# Altium schematic symbol library CC254x.SCHLIB: 30 symbols
Pins are listed as number, name and electrical type; pins without a type are passive.

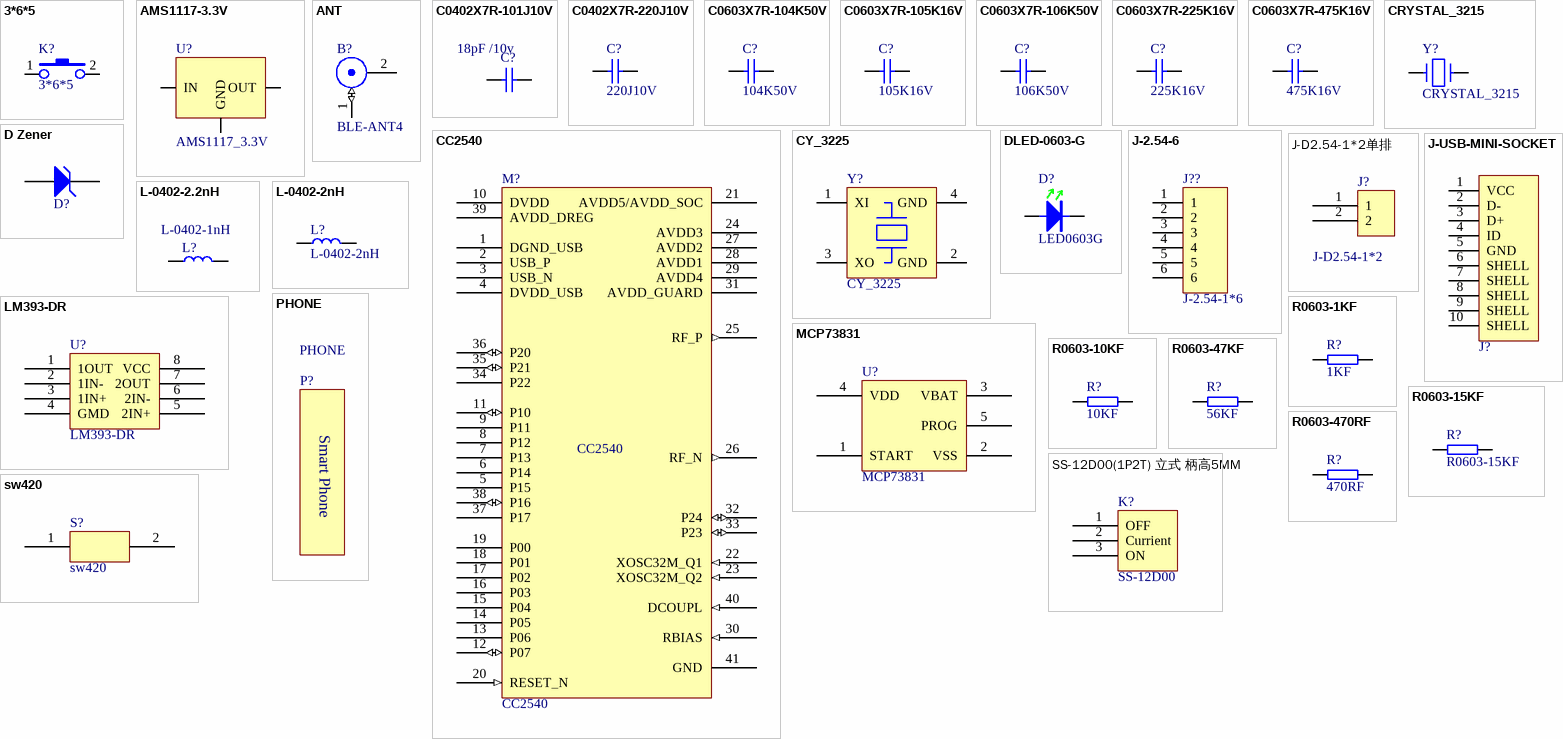
[diagram p0: symbols 3*6*5 to sw420]

## 3*6*5
designator K?
贴片-卧式轻触开关
footprint S-K3*6 (Footprint not found)
pins: 1, 2

## AMS1117-3.3V
designator U?, comment AMS1117_3.3V
footprint SOT-223
pins: 1 GND, 2 OUT, 3 IN

## ANT
designator B?, comment BLE-ANT4
footprint BLE-ANTS2
pins: 1 (io), 2 (power)

## C0402X7R-101J10V
designator C?, comment 18pF /10v
贴片电容-陶瓷; 规格型号: 100pF±5%_10V_X7R_C0402; 生产商: 风华 三星; 供应商: *; 备注: *
footprint C0402
pins: 1, 2

## C0402X7R-220J10V
designator C?, comment 220J10V
贴片电容-陶瓷; 规格型号: 22pF±5%_10V_X7R_C0402; 生产商: 风华 三星; 供应商: *; 备注: *
footprint C0402
pins: 1, 2

## C0603X7R-104K50V
designator C?, comment 104K50V
贴片电容-陶瓷; 规格型号: 100nF±10%_50V_X7R_C0603; 生产商: 风华 三星; 供应商: *; 备注: *
footprint C0603
pins: 1, 2

## C0603X7R-105K16V
designator C?, comment 105K16V
贴片电容-陶瓷; 规格型号: 1uF±10%_16V_X7R_C0603; 生产商: 风华 三星; 供应商: *; 备注: *
footprint C0603
pins: 1, 2

## C0603X7R-106K50V
designator C?, comment 106K50V
贴片电容-陶瓷; 规格型号: 10uF±10%_50V_X7R_C0603; 生产商: 风华 三星; 供应商: *; 备注: *
footprint C0603
pins: 1, 2

## C0603X7R-225K16V
designator C?, comment 225K16V
贴片电容-陶瓷; 规格型号: 2.2uF±10%_16V_X7R_C0603; 生产商: 风华 三星; 供应商: *; 备注: *
footprint C0603
pins: 1, 2

## C0603X7R-475K16V
designator C?, comment 475K16V
贴片电容-陶瓷; 规格型号: 4.7uF±10%_16V_X7R_C0603; 生产商: 风华 三星; 供应商: *; 备注: *
footprint C0603
pins: 1, 2

## CC2540
designator M?
footprint CC254X_QFN
pins: 1 DGND_USB (power), 2 USB_P (power), 3 USB_N (power), 4 DVDD_USB (power), 5 P15, 6 P14, 7 P13, 8 P12, 9 P11, 10 DVDD (power), 11 P10 (io), 12 P07 (io), 13 P06, 14 P05, 15 P04, 16 P03, 17 P02, 18 P01, 19 P00, 20 RESET_N (in), 21 AVDD5/AVDD_SOC (power), 22 XOSC32M_Q1 (in), 23 XOSC32M_Q2 (in), 24 AVDD3 (power), 25 RF_P (out), 26 RF_N (out), 27 AVDD2 (power), 28 AVDD1 (power), 29 AVDD4 (power), 30 RBIAS (in), 31 AVDD_GUARD (power), 32 P24 (io), 33 P23 (io), 34 P22, 35 P21 (io), 36 P20 (io), 37 P17, 38 P16 (io), 39 AVDD_DREG (power), 40 DCOUPL (in), 41 GND (power)

## CRYSTAL_3215
designator Y?
CRYSTAL_3215，两脚
footprint CRYSTAL_3215
pins: 1, 2

## CY_3225
designator Y?
footprint CY_3225
pins: 1 XI, 2 GND, 3 XO, 4 GND

## D Zener
designator D?, comment ESDA_TR1/0603  (value not drawn)
Zener Diode; Published: *; LatestRevisionDate: *; LatestRevisionNote: *; PackageReference: *; Publisher: *
footprint HS_0603D (Footprint not found)
pins: 1 A, 2 K
2 alternate drawings of the same symbol

## DLED-0603-G
designator D?, comment LED0603G
贴片二极管-LED; 规格型号: 0603-GREEN; 货品编码: 无样品无编码; 生产商: *; 供应商: *; 备注: *
footprint D-LED0603G
pins: 1, 2

## J-2.54-6
designator J??, comment J-2.54-1*6
单排
footprint D2.54-1*6
pins: 1, 2, 3, 4, 5, 6

## J-D2.54-1*2单排
designator J?, comment J-D2.54-1*2
footprint D2.54-1*2P
pins: 1, 2

## J-USB-MINI-SOCKET
designator J?, comment USB-MINI-SOCKET  (value not drawn)
USB-A卧式插座; 供应商: *; 备注: *
footprint MICRO-USB - 5.9
pins: 1 VCC, 2 D-, 3 D+, 4 ID, 5 GND, 6 SHELL, 7 SHELL, 8 SHELL, 9 SHELL, 10 SHELL

## L-0402-2.2nH
designator L?, comment L-0402-1nH
贴片电感-层叠
footprint L0402 (贴片电感)
pins: 1, 2

## L-0402-2nH
designator L?
贴片电感-层叠
footprint L0402 (贴片电感)
pins: 1, 2

## LM393-DR
designator U?
双路比较器
footprint LM393 (SOP, 8-Leads, Body 4.90x3.90mm, Pitch 1.27mm, IPC Medium Density)
pins: 1 1OUT, 2 1IN-, 3 1IN+, 4 GMD, 5 2IN+, 6 2IN-, 7 2OUT, 8 VCC

## MCP73831
designator U?
charge IC
footprint SOT23-5N (SOT23, 5-Leads, Body 2.90x2.70mm, Pitch 0.95mm, IPC Medium Density)
pins: 1 START, 2 VSS, 3 VBAT, 4 VDD, 5 PROG

## PHONE
designator P?
text: Smart Phone

## R0603-1KF
designator R?, comment 1KF
贴片电阻-通用; 生产商: 厚声 国巨; 规格型号: 1K±1%_1/10W_±200ppm_R0603; 货品编码: 无样品无编码; 备注: *; 供应商: *
footprint R0603
pins: 1, 2

## R0603-10KF
designator R?, comment 10KF
贴片电阻-通用; 生产商: 厚声 国巨; 规格型号: 10K±1%_1/10W_±200ppm_R0603; 备注: *; 供应商: *
footprint R0603
pins: 1, 2

## R0603-15KF
designator R?
贴片电容-通用
footprint R0603
pins: 1, 2

## R0603-47KF
designator R?, comment 56KF
贴片电阻-通用; 生产商: 厚声 国巨; 规格型号: 47K±1%_1/10W_±200ppm_R0603; 货品编码: 无样品无编码; 备注: *; 供应商: *
footprint R0603
pins: 1, 2

## R0603-470RF
designator R?, comment 470RF
贴片电阻-通用; 生产商: 厚声 国巨; 规格型号: 470R±1%_1/10W_±200ppm_R0603; 货品编码: 无样品无编码; 备注: *; 供应商: *
footprint R0603
pins: 1, 2

## SS-12D00(1P2T) 立式 柄高5MM
designator K?, comment SS-12D00
footprint SS-12D00 (SS-12D00(1P2T) 立式 柄高5MM)
pins: 1 OFF, 2 Currient, 3 ON

## sw420
designator S?
常闭振动传感器
footprint sw420 (常闭型 振动开关SW-420 高灵敏震动开关2708全方位感应传感器)
pins: 1, 2